# Altium footprint library SJ13523N.PcbLib: 1 footprints
Each footprint in its own frame and in the unit in brackets; x right, y up, seen from the top. Pads: shape width x height; smd on the part's side, far side on the other; paste and mask are expansions set on the pad; w line width, h text height; cw(c..) or ccw(c..) is an arc to the next point about the centre after c.
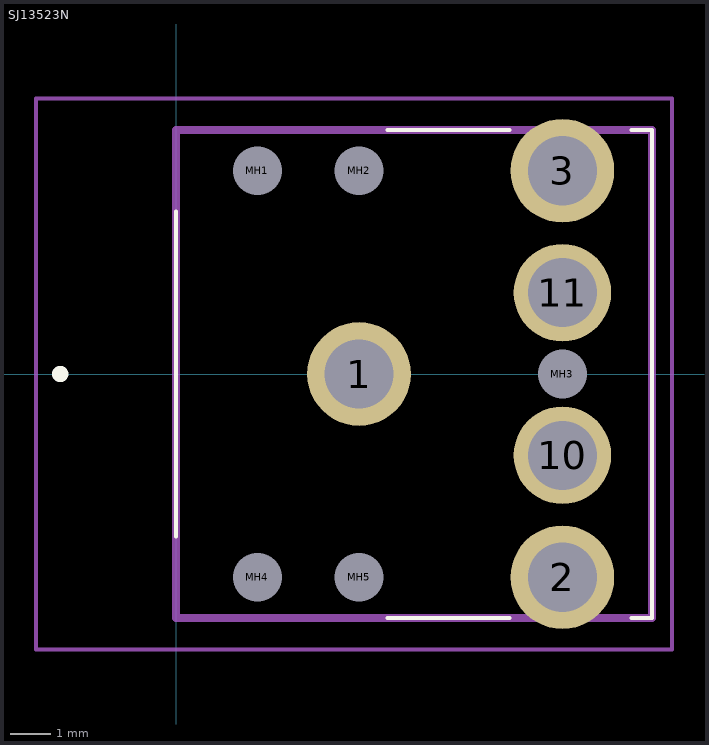
[diagram p0: the footprint, top view; thin cyan lines are the x and y axes]

## SJ13523N [mm]
pads (10):
  round 2.55 hole 1.7: 1(4.5,0) 2(9.5,-5) 3(9.5,5)
  round 2.4 hole 1.7: 10(9.5,-2) 11(9.5,2)
  round 0.6 hole 1.2 unplated: MH1(2,5) MH2(4.5,5) MH3(9.5,0) MH4(2,-5) MH5(4.5,-5)
Top Overlay:
  lines w0.1: 0,-4 0,4 ; 5.2,-6 8.2,-6 ; 5.2,6 8.2,6 ; 11.2,-6 11.7,-6 11.7,6 11.2,6
  lines w0.2: -2.85,-0.1 cw(c-2.85,0) -2.85,0.1 ; -2.85,-0.1 -2.85,-0.1 ; -2.85,-0.1 ccw(c-2.85,0) -2.85,0.1 ; -2.85,0.1 -2.85,0.1
Mechanical 15:
  lines w0.2: 0,-6 11.7,-6 11.7,6 0,6 0,-6
Mechanical 20:
  lines w0.1: -3.45,-6.775 12.2,-6.775 12.2,6.775 -3.45,6.775 -3.45,-6.775
3D body "SJ1-3523N.stp": height 5.8, standoff -4.65, extent -10,-3.376 10,3.376